# Altium footprint library QFN50P300X300X100-17N.PcbLib: 2 footprints
Each footprint in its own frame and in the unit in brackets; x right, y up, seen from the top. Pads: shape width x height; smd on the part's side, far side on the other; paste and mask are expansions set on the pad; w line width, h text height; cw(c..) or ccw(c..) is an arc to the next point about the centre after c.
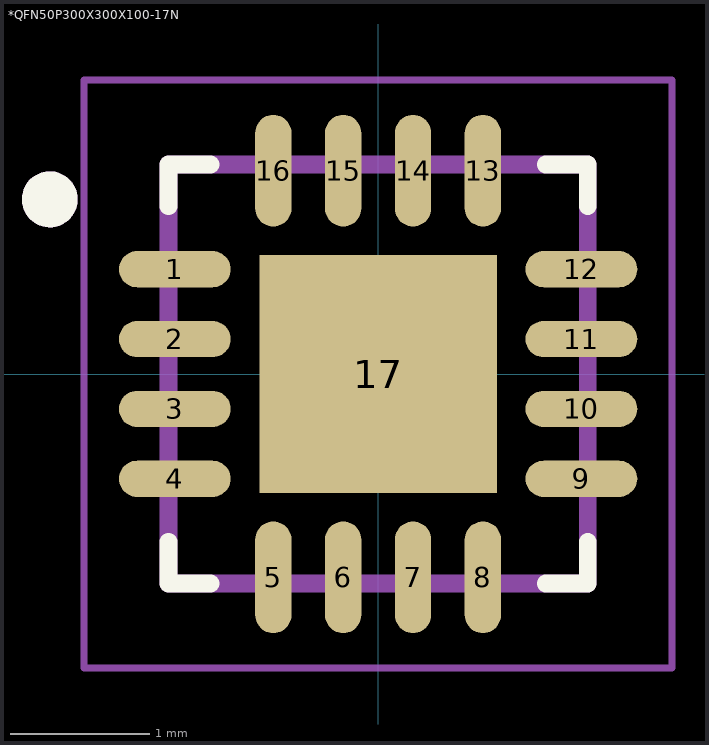
[diagram p0: the footprints below, top view; thin cyan lines are the x and y axes]

## *QFN50P300X300X100-17N [mm]
pads (17):
  oval 0.8x0.26 smd: 1(-1.455,0.75) 2(-1.455,0.25) 3(-1.455,-0.25) 4(-1.455,-0.75) 9(1.455,-0.75) 10(1.455,-0.25) 11(1.455,0.25) 12(1.455,0.75)
  oval 0.26x0.8 smd: 5(-0.75,-1.455) 6(-0.25,-1.455) 7(0.25,-1.455) 8(0.75,-1.455) 13(0.75,1.455) 14(0.25,1.455) 15(-0.25,1.455) 16(-0.75,1.455)
  rect 1.7x1.7 smd: 17(0,0)
Top Overlay:
  circle w0.2: c-2.35,1.25 r0.1
  lines w0.127: -1.5,-1.2 -1.5,-1.5 -1.2,-1.5 ; -1.5,1.2 -1.5,1.5 -1.2,1.5 ; 1.2,-1.5 1.5,-1.5 1.5,-1.2 ; 1.2,1.5 1.5,1.5 1.5,1.2
Top Paste:
  region: -0.537,0.537 0.537,0.537 0.537,-0.537 -0.537,-0.537
Mechanical 13:
  circle w0.2: c-2.35,1.25 r0.1
  circle w0.2: c-2.35,1.25 r0.1
  lines w0.127: -1.5,-1.5 -1.5,1.5 ; -1.5,-1.5 1.5,-1.5 ; -1.5,-1.5 -1.5,1.5 ; -1.5,-1.5 1.5,-1.5 ; -1.5,1.5 1.5,1.5 ; -1.5,1.5 1.5,1.5 ; 1.5,-1.5 1.5,1.5 ; 1.5,-1.5 1.5,1.5
Mechanical 15:
  lines w0.05: -2.105,-2.105 -2.105,2.105 2.105,2.105 2.105,-2.105 -2.105,-2.105

## PCBComponent_1 [mm]